# Altium schematic symbol library Interface_Ethernet.SchLib: 28 symbols
Pins are listed as number, name and electrical type; pins without a type are passive.

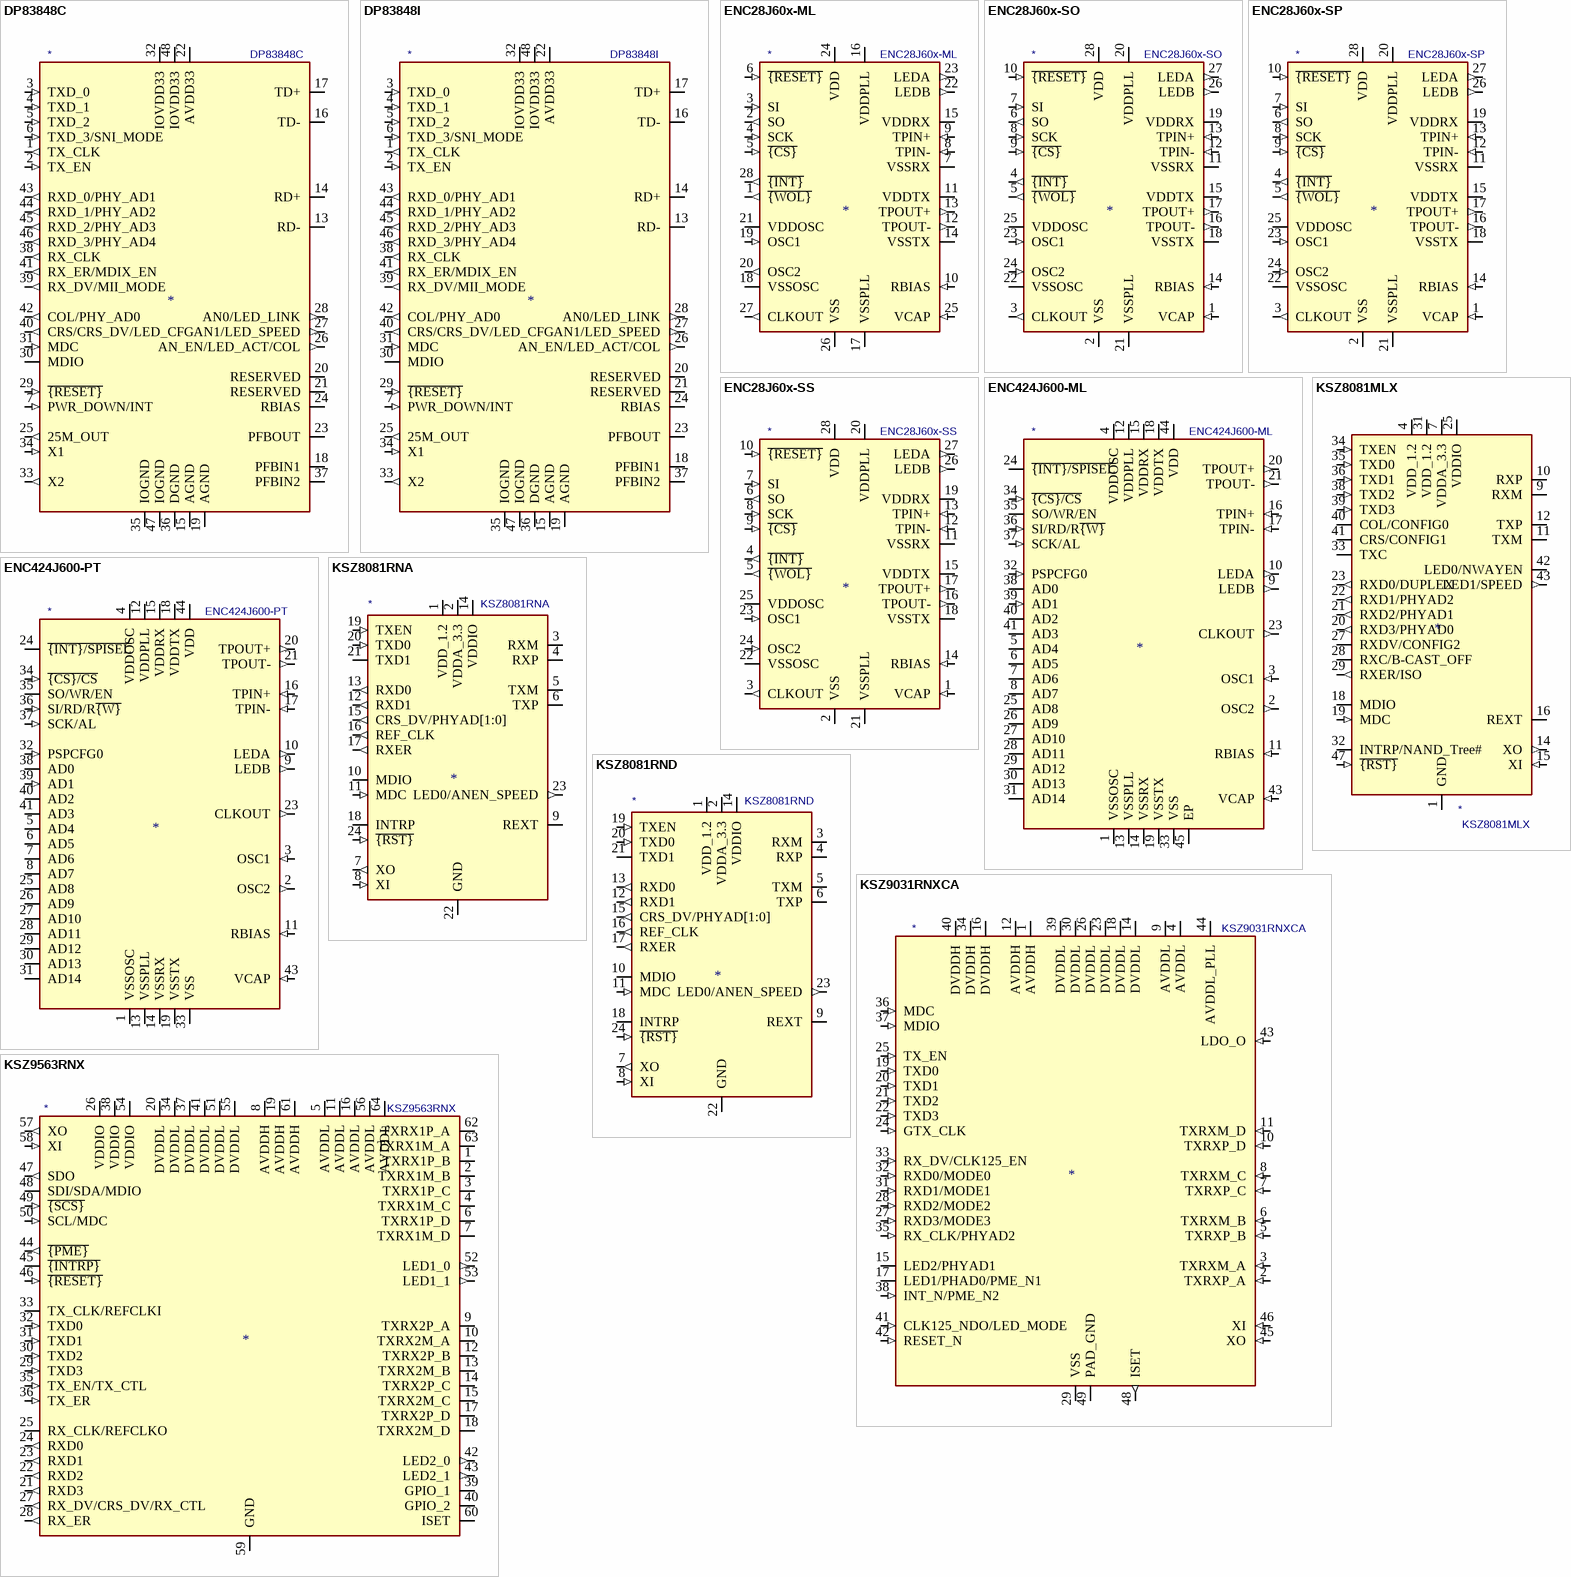
[diagram p0: symbols DP83848C to KSZ9563RNX]

## DP83848C
designator *  value DP83848C
ki_keywords: Ethernet PHY MII RMII 10/100Mpbs; ki_description: MII/RMII Single 10/100Mbps Ethernet Physical Layer Transceiver, LQFP-48; ki_fp_filters: LQFP*7x7mm*P0.5mm*; Footprint: Package_QFP:LQFP-48_7x7mm_P0.5mm; Supplier: http://www.ti.com/lit/ds/symlink/dp83848c.pdf
footprint LQFP-48_7x7mm_P0.5mm
pins: 1 TX_CLK (out), 2 TX_EN (in), 3 TXD_0 (in), 4 TXD_1 (in), 5 TXD_2 (in), 6 TXD_3/SNI_MODE (in), 7 PWR_DOWN/INT (in), 13 RD-, 14 RD+, 15 AGND (power), 16 TD-, 17 TD+, 18 PFBIN1, 19 AGND (power), 20 RESERVED, 21 RESERVED, 22 AVDD33 (power), 23 PFBOUT, 24 RBIAS, 25 25M_OUT (out), 26 AN_EN/LED_ACT/COL (out), 27 AN1/LED_SPEED (out), 28 AN0/LED_LINK (out), 29 ~{{RESET}} (in), 30 MDIO (io), 31 MDC (in), 32 IOVDD33 (power), 33 X2 (out), 34 X1 (in), 35 IOGND (power), 36 DGND (power), 37 PFBIN2, 38 RX_CLK (out), 39 RX_DV/MII_MODE (out), 40 CRS/CRS_DV/LED_CFG (out), 41 RX_ER/MDIX_EN (out), 42 COL/PHY_AD0 (out), 43 RXD_0/PHY_AD1 (out), 44 RXD_1/PHY_AD2 (out), 45 RXD_2/PHY_AD3 (out), 46 RXD_3/PHY_AD4 (out), 47 IOGND (power), 48 IOVDD33 (power)

## DP83848I
designator *  value DP83848I
ki_keywords: Ethernet PHY MII RMII 10/100Mpbs; ki_description: MII/RMII Single 10/100Mbps Ethernet Physical Layer Transceiver, LQFP-48; ki_fp_filters: LQFP*7x7mm*P0.5mm*; Footprint: Package_QFP:LQFP-48_7x7mm_P0.5mm; Supplier: http://www.ti.com/lit/ds/symlink/dp83848c.pdf
footprint LQFP-48_7x7mm_P0.5mm
pins: 1 TX_CLK (out), 2 TX_EN (in), 3 TXD_0 (in), 4 TXD_1 (in), 5 TXD_2 (in), 6 TXD_3/SNI_MODE (in), 7 PWR_DOWN/INT (in), 13 RD-, 14 RD+, 15 AGND (power), 16 TD-, 17 TD+, 18 PFBIN1, 19 AGND (power), 20 RESERVED, 21 RESERVED, 22 AVDD33 (power), 23 PFBOUT, 24 RBIAS, 25 25M_OUT (out), 26 AN_EN/LED_ACT/COL (out), 27 AN1/LED_SPEED (out), 28 AN0/LED_LINK (out), 29 ~{{RESET}} (in), 30 MDIO (io), 31 MDC (in), 32 IOVDD33 (power), 33 X2 (out), 34 X1 (in), 35 IOGND (power), 36 DGND (power), 37 PFBIN2, 38 RX_CLK (out), 39 RX_DV/MII_MODE (out), 40 CRS/CRS_DV/LED_CFG (out), 41 RX_ER/MDIX_EN (out), 42 COL/PHY_AD0 (out), 43 RXD_0/PHY_AD1 (out), 44 RXD_1/PHY_AD2 (out), 45 RXD_2/PHY_AD3 (out), 46 RXD_3/PHY_AD4 (out), 47 IOGND (power), 48 IOVDD33 (power)

## ENC28J60x-ML
designator *  value ENC28J60x-ML
ki_keywords: ENC Ethernet; ki_description: ENC28J60 Single Chip Ethernet Interface,QFN-28; ki_fp_filters: QFN*28*1EP*6x6mm*P0.65mm*; Footprint: Package_DFN_QFN:QFN-28-1EP_6x6mm_P0.65mm_EP4.25x4.25mm; Supplier: http://ww1.microchip.com/downloads/en/devicedoc/39662e.pdf
footprint QFN-28-1EP_6x6mm_P0.65mm_EP4.25x4.25mm
pins: 1 ~{{WOL}} (out), 2 SO (out), 3 SI (in), 4 SCK (in), 5 ~{{CS}} (in), 6 ~{{RESET}} (in), 7 VSSRX (power), 8 TPIN- (in), 9 TPIN+ (in), 10 RBIAS (in), 11 VDDTX (power), 12 TPOUT- (out), 13 TPOUT+ (out), 14 VSSTX (power), 15 VDDRX (power), 16 VDDPLL (power), 17 VSSPLL (power), 18 VSSOSC (power), 19 OSC1 (in), 20 OSC2 (out), 21 VDDOSC (power), 22 LEDB (out), 23 LEDA (out), 24 VDD (power), 25 VCAP (in), 26 VSS (power), 27 CLKOUT (out), 28 ~{{INT}} (out)

## ENC28J60x-SO
designator *  value ENC28J60x-SO
ki_keywords: ENC Ethernet; ki_description: ENC28J60 Single Chip Ethernet Interface, SOIC-28; ki_fp_filters: SOIC*28*7.5x17.9mm*P1.27mm*; Footprint: Package_SO:SOIC-28W_7.5x17.9mm_P1.27mm; Supplier: http://ww1.microchip.com/downloads/en/devicedoc/39662e.pdf
footprint SOIC-28W_7.5x17.9mm_P1.27mm
pins: 1 VCAP (in), 2 VSS (power), 3 CLKOUT (out), 4 ~{{INT}} (out), 5 ~{{WOL}} (out), 6 SO (out), 7 SI (in), 8 SCK (in), 9 ~{{CS}} (in), 10 ~{{RESET}} (in), 11 VSSRX (power), 12 TPIN- (in), 13 TPIN+ (in), 14 RBIAS (in), 15 VDDTX (power), 16 TPOUT- (out), 17 TPOUT+ (out), 18 VSSTX (power), 19 VDDRX (power), 20 VDDPLL (power), 21 VSSPLL (power), 22 VSSOSC (power), 23 OSC1 (in), 24 OSC2 (in), 25 VDDOSC (power), 26 LEDB (out), 27 LEDA (out), 28 VDD (power)

## ENC28J60x-SP
designator *  value ENC28J60x-SP
ki_keywords: ENC Ethernet; ki_description: ENC28J60 Single Chip Ethernet Interface, DIP-28; ki_fp_filters: DIP*28*W7.62mm*; Footprint: Package_DIP:DIP-28_W7.62mm; Supplier: http://ww1.microchip.com/downloads/en/devicedoc/39662e.pdf
footprint DIP-28_W7.62mm
pins: 1 VCAP (in), 2 VSS (power), 3 CLKOUT (out), 4 ~{{INT}} (out), 5 ~{{WOL}} (out), 6 SO (out), 7 SI (in), 8 SCK (in), 9 ~{{CS}} (in), 10 ~{{RESET}} (in), 11 VSSRX (power), 12 TPIN- (in), 13 TPIN+ (in), 14 RBIAS (in), 15 VDDTX (power), 16 TPOUT- (out), 17 TPOUT+ (out), 18 VSSTX (power), 19 VDDRX (power), 20 VDDPLL (power), 21 VSSPLL (power), 22 VSSOSC (power), 23 OSC1 (in), 24 OSC2 (in), 25 VDDOSC (power), 26 LEDB (out), 27 LEDA (out), 28 VDD (power)

## ENC28J60x-SS
designator *  value ENC28J60x-SS
ki_keywords: ENC Ethernet; ki_description: ENC28J60 Single Chip Ethernet Interface, SSOP-28; ki_fp_filters: SSOP*28*5.3x10.2mm*P0.65mm*; Footprint: Package_SO:SSOP-28_5.3x10.2mm_P0.65mm; Supplier: http://ww1.microchip.com/downloads/en/devicedoc/39662e.pdf
footprint SSOP-28_5.3x10.2mm_P0.65mm
pins: 1 VCAP (in), 2 VSS (power), 3 CLKOUT (out), 4 ~{{INT}} (out), 5 ~{{WOL}} (out), 6 SO (out), 7 SI (in), 8 SCK (in), 9 ~{{CS}} (in), 10 ~{{RESET}} (in), 11 VSSRX (power), 12 TPIN- (in), 13 TPIN+ (in), 14 RBIAS (in), 15 VDDTX (power), 16 TPOUT- (out), 17 TPOUT+ (out), 18 VSSTX (power), 19 VDDRX (power), 20 VDDPLL (power), 21 VSSPLL (power), 22 VSSOSC (power), 23 OSC1 (in), 24 OSC2 (in), 25 VDDOSC (power), 26 LEDB (out), 27 LEDA (out), 28 VDD (power)

## ENC424J600-ML
designator *  value ENC424J600-ML
ki_keywords: ENC Ethernet; ki_description: Stand-Alone 10/100 Ethernet Controller with SPI or Parallel Interface, QFN-44; ki_fp_filters: QFN*44*8x8mm*P0.65mm*; Footprint: Package_DFN_QFN:QFN-44-1EP_8x8mm_P0.65mm_EP6.45x6.45mm; Supplier: http://ww1.microchip.com/downloads/en/DeviceDoc/39935c.pdf
footprint QFN-44-1EP_8x8mm_P0.65mm_EP6.45x6.45mm
pins: 1 VSSOSC (power), 2 OSC2 (out), 3 OSC1 (in), 4 VDDOSC (power), 5 AD4 (io), 6 AD5 (io), 7 AD6 (io), 8 AD7 (io), 9 LEDB (out), 10 LEDA (out), 11 RBIAS (in), 12 VDDPLL (power), 13 VSSPLL (power), 14 VSSRX (power), 15 VDDRX (power), 16 TPIN+ (in), 17 TPIN- (in), 18 VDDTX (power), 19 VSSTX (power), 20 TPOUT+ (out), 21 TPOUT- (out), 22 VSSTX hidden, 23 CLKOUT (out), 24 ~{{INT}/SPISEL} (io), 25 AD8 (io), 26 AD9 (io), 27 AD10 (io), 28 AD11 (io), 29 AD12 (io), 30 AD13 (io), 31 AD14 (io), 32 PSPCFG0 (in), 33 VSS (power), 34 ~{{CS}/CS} (in), 35 SO/WR/EN (io), 36 SI/RD/R~{{W}} (in), 37 SCK/AL (in), 38 AD0 (io), 39 AD1 (in), 40 AD2 (io), 41 AD3 (io), 42 VSS hidden, 43 VCAP (in), 44 VDD (power), 45 EP (power)

## ENC424J600-PT
designator *  value ENC424J600-PT
ki_keywords: ENC Ethernet; ki_description: Stand-Alone 10/100 Ethernet Controller with SPI or Parallel Interface, TQFP-44; ki_fp_filters: TQFP*44*10x10mm*P0.8mm*; Footprint: Package_QFP:TQFP-44_10x10mm_P0.8mm; Supplier: http://ww1.microchip.com/downloads/en/DeviceDoc/39935c.pdf
footprint TQFP-44_10x10mm_P0.8mm
pins: 1 VSSOSC (power), 2 OSC2 (out), 3 OSC1 (in), 4 VDDOSC (power), 5 AD4 (io), 6 AD5 (io), 7 AD6 (io), 8 AD7 (io), 9 LEDB (out), 10 LEDA (out), 11 RBIAS (in), 12 VDDPLL (power), 13 VSSPLL (power), 14 VSSRX (power), 15 VDDRX (power), 16 TPIN+ (in), 17 TPIN- (in), 18 VDDTX (power), 19 VSSTX (power), 20 TPOUT+ (out), 21 TPOUT- (out), 22 VSSTX hidden, 23 CLKOUT (out), 24 ~{{INT}/SPISEL} (io), 25 AD8 (io), 26 AD9 (io), 27 AD10 (io), 28 AD11 (io), 29 AD12 (io), 30 AD13 (io), 31 AD14 (io), 32 PSPCFG0 (in), 33 VSS (power), 34 ~{{CS}/CS} (in), 35 SO/WR/EN (io), 36 SI/RD/R~{{W}} (in), 37 SCK/AL (in), 38 AD0 (io), 39 AD1 (in), 40 AD2 (io), 41 AD3 (io), 42 VSS hidden, 43 VCAP (in), 44 VDD (power)

## KSZ8081MLX
designator *  value KSZ8081MLX
ki_keywords: ETH PHY RMII MII; ki_description: 10BASE-T/100BASE-TX PHY with RMII Support, 25 MHz input clock, LQFP-48; ki_fp_filters: LQFP?48*7x7mm*P0.5mm*; Footprint: Package_QFP:LQFP-48_7x7mm_P0.5mm; Supplier: http://ww1.microchip.com/downloads/en/DeviceDoc/KSZ8081MLX.pdf
footprint LQFP-48_7x7mm_P0.5mm
pins: 1 GND (power), 2 GND hidden, 3 GND hidden, 4 VDD_1.2 (power), 5 NC (in) hidden, 6 NC (in) hidden, 7 VDDA_3.3 (power), 8 NC (in) hidden, 9 RXM, 10 RXP, 11 TXM, 12 TXP, 13 GND hidden, 14 XO (out), 15 XI (in), 16 REXT, 17 GND hidden, 18 MDIO (io), 19 MDC (in), 20 RXD3/PHYAD0 (out), 21 RXD2/PHYAD1 (out), 22 RXD1/PHYAD2 (out), 23 RXD0/DUPLEX (out), 24 GND hidden, 25 VDDIO (power), 26 NC (in) hidden, 27 RXDV/CONFIG2 (io), 28 RXC/B-CAST_OFF (io), 29 RXER/ISO (out), 30 GND hidden, 31 VDD_1.2 (power), 32 INTRP/NAND_Tree# (io), 33 TXC (io), 34 TXEN (in), 35 TXD0 (in), 36 TXD1 (in), 37 GND hidden, 38 TXD2 (in), 39 TXD3 (in), 40 COL/CONFIG0 (io), 41 CRS/CONFIG1 (io), 42 LED0/NWAYEN (io), 43 LED1/SPEED (out), 44 TEST/NC (in) hidden, 45 NC (in) hidden, 46 NC (in) hidden, 47 ~{{RST}} (in)

## KSZ8081RNA
designator *  value KSZ8081RNA
ki_keywords: ETH PHY RMII; ki_description: 10BASE-T/100BASE-TX PHY with RMII Support, 25 MHz input clock/50 MHz output, QFN-24; ki_fp_filters: QFN*1EP*4x4mm*P0.5mm*; Footprint: Package_DFN_QFN:QFN-24-1EP_4x4mm_P0.5mm_EP2.6x2.6mm; Supplier: http://ww1.microchip.com/downloads/en/DeviceDoc/00002199A.pdf
footprint QFN-24-1EP_4x4mm_P0.5mm_EP2.6x2.6mm
pins: 1 VDD_1.2 (power), 2 VDDA_3.3 (power), 3 RXM (io), 4 RXP (io), 5 TXM (io), 6 TXP (io), 7 XO (out), 8 XI (in), 9 REXT, 10 MDIO (io), 11 MDC (in), 12 RXD1 (out), 13 RXD0 (out), 14 VDDIO (power), 15 CRS_DV/PHYAD[1:0] (out), 16 REF_CLK (out), 17 RXER (out), 18 INTRP (io), 19 TXEN (in), 20 TXD0 (in), 21 TXD1 (io), 22 GND (power), 23 LED0/ANEN_SPEED (out), 24 ~{{RST}} (in), 25 GND hidden

## KSZ8081RND
designator *  value KSZ8081RND
ki_keywords: ETH PHY RMII; ki_description: 10BASE-T/100BASE-TX PHY with RMII Support, 50 MHz input clock, QFN-24; ki_fp_filters: QFN*1EP*4x4mm*P0.5mm*; Footprint: Package_DFN_QFN:QFN-24-1EP_4x4mm_P0.5mm_EP2.6x2.6mm; Supplier: http://ww1.microchip.com/downloads/en/DeviceDoc/00002199A.pdf
footprint QFN-24-1EP_4x4mm_P0.5mm_EP2.6x2.6mm
pins: 1 VDD_1.2 (power), 2 VDDA_3.3 (power), 3 RXM (io), 4 RXP (io), 5 TXM (io), 6 TXP (io), 7 XO (out), 8 XI (in), 9 REXT, 10 MDIO (io), 11 MDC (in), 12 RXD1 (out), 13 RXD0 (out), 14 VDDIO (power), 15 CRS_DV/PHYAD[1:0] (out), 16 REF_CLK (out), 17 RXER (out), 18 INTRP (io), 19 TXEN (in), 20 TXD0 (in), 21 TXD1 (io), 22 GND (power), 23 LED0/ANEN_SPEED (out), 24 ~{{RST}} (in), 25 GND hidden

## KSZ9031RNXCA
designator *  value KSZ9031RNXCA
ki_keywords: ETHERNET PHY RGMII WOL IEEE 802.3 MICROCHIP; ki_description: 10/100/1000Mbps Ethernet Transceiver with RGMII Interface, QFN-48; ki_fp_filters: QFN*1EP*7x7mm*P0.5mm*; Footprint: Package_DFN_QFN:QFN-48-1EP_7x7mm_P0.5mm_EP5.15x5.15mm; Supplier: http://ww1.microchip.com/downloads/en/DeviceDoc/00002117C.pdf
footprint QFN-48-1EP_7x7mm_P0.5mm_EP5.15x5.15mm
pins: 1 AVDDH (power), 2 TXRXP_A (in), 3 TXRXM_A (in), 4 AVDDL (power), 5 TXRXP_B (in), 6 TXRXM_B (in), 7 TXRXP_C (in), 8 TXRXM_C (in), 9 AVDDL (power), 10 TXRXP_D (in), 11 TXRXM_D (in), 12 AVDDH (power), 13 NC (in) hidden, 14 DVDDL (power), 15 LED2/PHYAD1 (io), 16 DVDDH (power), 17 LED1/PHAD0/PME_N1 (io), 18 DVDDL (power), 19 TXD0 (in), 20 TXD1 (in), 21 TXD2 (in), 22 TXD3 (in), 23 DVDDL (power), 24 GTX_CLK (in), 25 TX_EN (in), 26 DVDDL (power), 27 RXD3/MODE3 (in), 28 RXD2/MODE2 (in), 29 VSS (power), 30 DVDDL (power), 31 RXD1/MODE1 (in), 32 RXD0/MODE0 (in), 33 RX_DV/CLK125_EN (in), 34 DVDDH (power), 35 RX_CLK/PHYAD2 (in), 36 MDC (in), 37 MDIO (in), 38 INT_N/PME_N2 (in), 39 DVDDL (power), 40 DVDDH (power), 41 CLK125_NDO/LED_MODE (in), 42 RESET_N (in), 43 LDO_O (in), 44 AVDDL_PLL (power), 45 XO (in), 46 XI (in), 47 NC (in) hidden, 48 ISET (out), 49 PAD_GND (power)

## KSZ9563RNX
designator *  value KSZ9563RNX
ki_keywords: Gigabit Ethernet Switch RGMII MII RMII ieee1588v2; ki_description: 3-Port Gigabit Ethernet Switch with RGMII/MII/RMII Interface and IEEE 1588v2, QFN-64; ki_fp_filters: QFN*1EP*8x8mm*P0.4mm*; Footprint: Package_DFN_QFN:QFN-64-1EP_8x8mm_P0.4mm_EP6.5x6.5mm; Supplier: http://ww1.microchip.com/downloads/en/DeviceDoc/KSZ9563R-Data-Sheet-DS00002419C.pdf
footprint QFN-64-1EP_8x8mm_P0.4mm_EP6.5x6.5mm
pins: 1 TXRX1P_B, 2 TXRX1M_B, 3 TXRX1P_C, 4 TXRX1M_C, 5 AVDDL (power), 6 TXRX1P_D, 7 TXRX1M_D, 8 AVDDH (power), 9 TXRX2P_A, 10 TXRX2M_A, 11 AVDDL (power), 12 TXRX2P_B, 13 TXRX2M_B, 14 TXRX2P_C, 15 TXRX2M_C, 16 AVDDL (power), 17 TXRX2P_D, 18 TXRX2M_D, 19 AVDDH (power), 20 DVDDL (power), 21 RXD3 (out), 22 RXD2 (out), 23 RXD1 (out), 24 RXD0 (out), 25 RX_CLK/REFCLKO (io), 26 VDDIO (power), 27 RX_DV/CRS_DV/RX_CTL (out), 28 RX_ER (out), 29 TXD3 (in), 30 TXD2 (in), 31 TXD1 (in), 32 TXD0 (in), 33 TX_CLK/REFCLKI (io), 34 DVDDL (power), 35 TX_EN/TX_CTL (in), 36 TX_ER (in), 37 DVDDL (power), 38 VDDIO (power), 39 GPIO_1 (io), 40 GPIO_2 (io), 41 DVDDL (power), 42 LED2_0 (out), 43 LED2_1 (out), 44 ~{{PME}} (out), 45 ~{{INTRP}} (oc), 46 ~{{RESET}} (in), 47 SDO (out), 48 SDI/SDA/MDIO (io), 49 ~{{SCS}} (in), 50 SCL/MDC (in), 51 DVDDL (power), 52 LED1_0 (out), 53 LED1_1 (out), 54 VDDIO (power), 55 DVDDL (power), 56 AVDDL (power), 57 XO (out), 58 XI (in), 59 GND (power), 60 ISET, 61 AVDDH (power), 62 TXRX1P_A, 63 TXRX1M_A, 64 AVDDL (power), 65 GND hidden

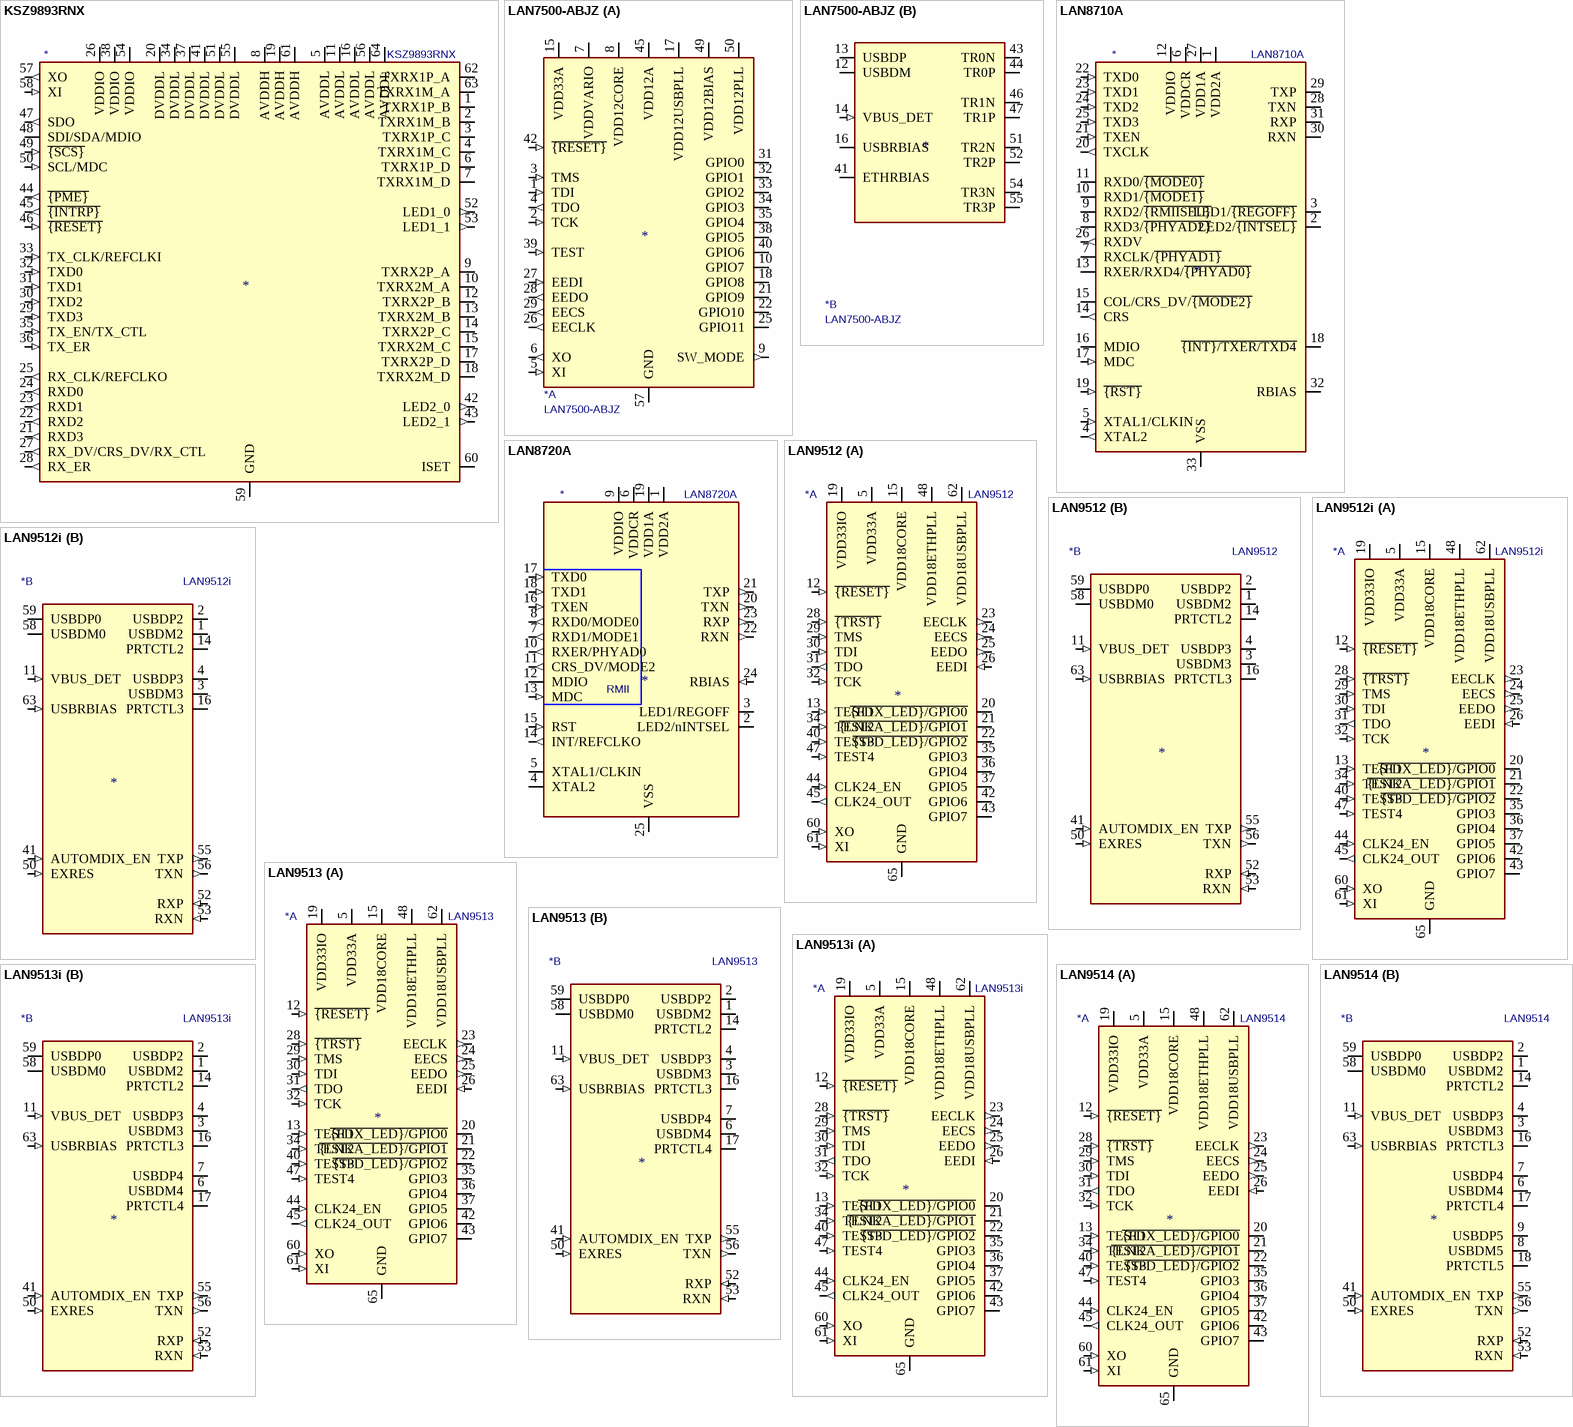
[diagram p1: symbols KSZ9893RNX to LAN9514]

## KSZ9893RNX
designator *  value KSZ9893RNX
ki_keywords: Gigabit Ethernet Switch RGMII MII RMII; ki_description: 3-Port Gigabit Ethernet Switch with RGMII/MII/RMII Interface, QFN-64; ki_fp_filters: QFN*1EP*8x8mm*P0.4mm*; Footprint: Package_DFN_QFN:QFN-64-1EP_8x8mm_P0.4mm_EP6.5x6.5mm; Supplier: http://ww1.microchip.com/downloads/en/DeviceDoc/KSZ9893R-Data-Sheet-DS00002420C.pdf
footprint QFN-64-1EP_8x8mm_P0.4mm_EP6.5x6.5mm
pins: 1 TXRX1P_B, 2 TXRX1M_B, 3 TXRX1P_C, 4 TXRX1M_C, 5 AVDDL (power), 6 TXRX1P_D, 7 TXRX1M_D, 8 AVDDH (power), 9 TXRX2P_A, 10 TXRX2M_A, 11 AVDDL (power), 12 TXRX2P_B, 13 TXRX2M_B, 14 TXRX2P_C, 15 TXRX2M_C, 16 AVDDL (power), 17 TXRX2P_D, 18 TXRX2M_D, 19 AVDDH (power), 20 DVDDL (power), 21 RXD3 (out), 22 RXD2 (out), 23 RXD1 (out), 24 RXD0 (out), 25 RX_CLK/REFCLKO (out), 26 VDDIO (power), 27 RX_DV/CRS_DV/RX_CTL (out), 28 RX_ER (out), 29 TXD3 (in), 30 TXD2 (in), 31 TXD1 (in), 32 TXD0 (in), 33 TX_CLK/REFCLKI (in), 34 DVDDL (power), 35 TX_EN/TX_CTL (in), 36 TX_ER (in), 37 DVDDL (power), 38 VDDIO (power), 39 NC (in) hidden, 40 NC (in) hidden, 41 DVDDL (power), 42 LED2_0 (out), 43 LED2_1 (out), 44 ~{{PME}} (out), 45 ~{{INTRP}} (out), 46 ~{{RESET}} (in), 47 SDO (out), 48 SDI/SDA/MDIO (io), 49 ~{{SCS}} (in), 50 SCL/MDC (in), 51 DVDDL (power), 52 LED1_0 (out), 53 LED1_1 (out), 54 VDDIO (power), 55 DVDDL (power), 56 AVDDL (power), 57 XO (out), 58 XI (in), 59 GND (power), 60 ISET, 61 AVDDH (power), 62 TXRX1P_A, 63 TXRX1M_A, 64 AVDDL (power), 65 GND hidden

## LAN7500-ABJZ
designator *  value LAN7500-ABJZ
ki_keywords: USB Ethernet 10/100/1000; ki_description: Hi-Speed USB 2.0 to 10/100/1000 Ethernet Controller, QFN-56; ki_fp_filters: QFN*1EP*8x8mm*P0.5mm*; Footprint: Package_DFN_QFN:QFN-56-1EP_8x8mm_P0.5mm_EP5.9x5.9mm; Supplier: http://ww1.microchip.com/downloads/en/DeviceDoc/00001734B.pdf
footprint QFN-56-1EP_8x8mm_P0.5mm_EP5.9x5.9mm
part A pins: 1 TDI (in), 2 TCK (in), 3 TMS (in), 4 TDO (out), 5 XI (in), 6 XO (out), 7 VDDVARIO (power), 8 VDD12CORE (power), 9 SW_MODE (out), 10 GPIO7 (io), 11 VDD12CORE hidden, 15 VDD33A (power), 17 VDD12USBPLL (power), 18 GPIO8 (io), 19 VDDVARIO hidden, 20 VDD12CORE hidden, 21 GPIO9 (io), 22 GPIO10 (io), 23 VDD12CORE hidden, 24 VDDVARIO hidden, 25 GPIO11 (io), 26 EECLK (out), 27 EEDI (in), 28 EEDO (out), 29 EECS (out), 30 VDD12CORE hidden, 31 GPIO0 (io), 32 GPIO1 (io), 33 GPIO2 (io), 34 GPIO3 (io), 35 GPIO4 (io), 36 VDD12CORE hidden, 37 VDDVARIO hidden, 38 GPIO5 (io), 39 TEST (in), 40 GPIO6 (io), 42 ~{{RESET}} (in), 45 VDD12A (power), 48 VDD12A hidden, 49 VDD12BIAS (power), 50 VDD12PLL (power), 53 VDD12A hidden, 56 VDD12A hidden, 57 GND (power)
part B pins: 12 USBDM (io), 13 USBDP (io), 14 VBUS_DET (in), 16 USBRBIAS, 41 ETHRBIAS, 43 TR0N (io), 44 TR0P (io), 46 TR1N (io), 47 TR1P (io), 51 TR2N (io), 52 TR2P (io), 54 TR3N (io), 55 TR3P (io)

## LAN8710A
designator *  value LAN8710A
ki_keywords: ETH PHY MII RMII; ki_description: LAN8710 Ethernet PHY with MII/RMII interface, QFN-32; ki_fp_filters: QFN*1EP*5x5mm*P0.5mm*; Footprint: Package_DFN_QFN:QFN-32-1EP_5x5mm_P0.5mm_EP3.3x3.3mm_ThermalVias; Supplier: http://ww1.microchip.com/downloads/en/DeviceDoc/8710a.pdf
footprint QFN-32-1EP_5x5mm_P0.5mm_EP3.3x3.3mm_ThermalVias
pins: 1 VDD2A (power), 2 LED2/~{{INTSEL}} (io), 3 LED1/~{{REGOFF}} (io), 4 XTAL2 (out), 5 XTAL1/CLKIN (in), 6 VDDCR (power), 7 RXCLK/~{{PHYAD1}} (io), 8 RXD3/~{{PHYAD2}} (io), 9 RXD2/~{{RMIISEL}} (io), 10 RXD1/~{{MODE1}} (io), 11 RXD0/~{{MODE0}} (io), 12 VDDIO (power), 13 RXER/RXD4/~{{PHYAD0}} (io), 14 CRS (out), 15 COL/CRS_DV/~{{MODE2}} (io), 16 MDIO (io), 17 MDC (in), 18 ~{{INT}/TXER/TXD4} (io), 19 ~{{RST}} (in), 20 TXCLK (out), 21 TXEN (in), 22 TXD0 (in), 23 TXD1 (in), 24 TXD2 (in), 25 TXD3 (in), 26 RXDV (out), 27 VDD1A (power), 28 TXN (io), 29 TXP (io), 30 RXN (io), 31 RXP (io), 32 RBIAS, 33 VSS (power)

## LAN8720A
designator *  value LAN8720A
ki_keywords: ETH PHY RMII; ki_description: LAN8720 Ethernet PHY with RMII interface, QFN-24; ki_fp_filters: QFN*1EP*4x4mm*P0.5mm*; Footprint: Package_DFN_QFN:QFN-24-1EP_4x4mm_P0.5mm_EP2.6x2.6mm; Supplier: http://ww1.microchip.com/downloads/en/DeviceDoc/8720a.pdf
footprint QFN-24-1EP_4x4mm_P0.5mm_EP2.6x2.6mm
pins: 1 VDD2A (power), 2 LED2/nINTSEL (io), 3 LED1/REGOFF (io), 4 XTAL2, 5 XTAL1/CLKIN, 6 VDDCR (power), 7 RXD1/MODE1 (out), 8 RXD0/MODE0 (out), 9 VDDIO (power), 10 RXER/PHYAD0 (out), 11 CRS_DV/MODE2 (out), 12 MDIO (io), 13 MDC (in), 14 INT/REFCLKO (out), 15 RST (in), 16 TXEN (in), 17 TXD0 (in), 18 TXD1 (in), 19 VDD1A (power), 20 TXN (out), 21 TXP (out), 22 RXN (out), 23 RXP (out), 24 RBIAS (in), 25 VSS (power)
text: RMII

## LAN9512
designator *  value LAN9512
ki_keywords: USB HUB Ethernet 10/100; ki_description: Two USB 2.0 hub with an integrated 10/100 Ethernet controller (0°C to +70°C), QFN-48; ki_fp_filters: QFN*1EP?9x9mm?P0.5mm?EP7.3x7.3mm*; Footprint: Package_DFN_QFN:QFN-64-1EP_9x9mm_P0.5mm_EP7.3x7.3mm; Supplier: http://ww1.microchip.com/downloads/en/DeviceDoc/00002304A.pdf
footprint QFN-64-1EP_9x9mm_P0.5mm_EP7.3x7.3mm
part A pins: 5 VDD33A (power), 10 VDD33A hidden, 12 ~{{RESET}} (in), 13 TEST1 (in), 15 VDD18CORE (power), 19 VDD33IO (power), 20 ~{{FDX_LED}/GPIO0} (io), 21 ~{{LNKA_LED}/GPIO1} (io), 22 ~{{SPD_LED}/GPIO2} (io), 23 EECLK (out), 24 EECS (out), 25 EEDO (out), 26 EEDI (in), 27 VDD33IO hidden, 28 ~{{TRST}} (in), 29 TMS (in), 30 TDI (in), 31 TDO (out), 32 TCK (in), 33 VDD33IO hidden, 34 TEST2 (in), 35 GPIO3 (io), 36 GPIO4 (io), 37 GPIO5 (io), 38 VDD18CORE hidden, 39 VDD33IO hidden, 40 TEST3 (in), 42 GPIO6 (io), 43 GPIO7 (io), 44 CLK24_EN (in), 45 CLK24_OUT (out), 46 VDD33IO hidden, 47 TEST4 (in), 48 VDD18ETHPLL (power), 49 VDD33A hidden, 51 VDD33A hidden, 54 VDD33A hidden, 57 VDD33A hidden, 60 XO (in), 61 XI (in), 62 VDD18USBPLL (power), 64 VDD33A hidden, 65 GND (power)
part B pins: 1 USBDM2 (io), 2 USBDP2 (io), 3 USBDM3 (io), 4 USBDP3 (io), 6 NC (in) hidden, 7 NC (in) hidden, 8 NC (in) hidden, 9 NC (in) hidden, 11 VBUS_DET (in), 14 PRTCTL2 (io), 16 PRTCTL3 (io), 17 NC (in) hidden, 18 NC (in) hidden, 41 AUTOMDIX_EN (in), 50 EXRES (in), 52 RXP (in), 53 RXN (in), 55 TXP (out), 56 TXN (out), 58 USBDM0 (io), 59 USBDP0 (io), 63 USBRBIAS (in)

## LAN9512i
designator *  value LAN9512i
ki_keywords: USB HUB Ethernet 10/100; ki_description: Two USB 2.0 hub with an integrated 10/100 Ethernet controller (-40° to 85°C), QFN-48; ki_fp_filters: QFN*1EP?9x9mm?P0.5mm?EP7.3x7.3mm*; Footprint: Package_DFN_QFN:QFN-64-1EP_9x9mm_P0.5mm_EP7.3x7.3mm; Supplier: http://ww1.microchip.com/downloads/en/DeviceDoc/00002304A.pdf
footprint QFN-64-1EP_9x9mm_P0.5mm_EP7.3x7.3mm
part A pins: 5 VDD33A (power), 10 VDD33A hidden, 12 ~{{RESET}} (in), 13 TEST1 (in), 15 VDD18CORE (power), 19 VDD33IO (power), 20 ~{{FDX_LED}/GPIO0} (io), 21 ~{{LNKA_LED}/GPIO1} (io), 22 ~{{SPD_LED}/GPIO2} (io), 23 EECLK (out), 24 EECS (out), 25 EEDO (out), 26 EEDI (in), 27 VDD33IO hidden, 28 ~{{TRST}} (in), 29 TMS (in), 30 TDI (in), 31 TDO (out), 32 TCK (in), 33 VDD33IO hidden, 34 TEST2 (in), 35 GPIO3 (io), 36 GPIO4 (io), 37 GPIO5 (io), 38 VDD18CORE hidden, 39 VDD33IO hidden, 40 TEST3 (in), 42 GPIO6 (io), 43 GPIO7 (io), 44 CLK24_EN (in), 45 CLK24_OUT (out), 46 VDD33IO hidden, 47 TEST4 (in), 48 VDD18ETHPLL (power), 49 VDD33A hidden, 51 VDD33A hidden, 54 VDD33A hidden, 57 VDD33A hidden, 60 XO (in), 61 XI (in), 62 VDD18USBPLL (power), 64 VDD33A hidden, 65 GND (power)
part B pins: 1 USBDM2 (io), 2 USBDP2 (io), 3 USBDM3 (io), 4 USBDP3 (io), 6 NC (in) hidden, 7 NC (in) hidden, 8 NC (in) hidden, 9 NC (in) hidden, 11 VBUS_DET (in), 14 PRTCTL2 (io), 16 PRTCTL3 (io), 17 NC (in) hidden, 18 NC (in) hidden, 41 AUTOMDIX_EN (in), 50 EXRES (in), 52 RXP (in), 53 RXN (in), 55 TXP (out), 56 TXN (out), 58 USBDM0 (io), 59 USBDP0 (io), 63 USBRBIAS (in)

## LAN9513
designator *  value LAN9513
ki_keywords: USB HUB Ethernet 10/100; ki_description: Three USB 2.0 hub with an integrated 10/100 Ethernet controller (0°C to +70°C), QFN-48; ki_fp_filters: QFN*1EP?9x9mm?P0.5mm?EP7.3x7.3mm*; Footprint: Package_DFN_QFN:QFN-64-1EP_9x9mm_P0.5mm_EP7.3x7.3mm; Supplier: http://ww1.microchip.com/downloads/en/DeviceDoc/00002305A.pdf
footprint QFN-64-1EP_9x9mm_P0.5mm_EP7.3x7.3mm
part A pins: 5 VDD33A (power), 10 VDD33A hidden, 12 ~{{RESET}} (in), 13 TEST1 (in), 15 VDD18CORE (power), 19 VDD33IO (power), 20 ~{{FDX_LED}/GPIO0} (io), 21 ~{{LNKA_LED}/GPIO1} (io), 22 ~{{SPD_LED}/GPIO2} (io), 23 EECLK (out), 24 EECS (out), 25 EEDO (out), 26 EEDI (in), 27 VDD33IO hidden, 28 ~{{TRST}} (in), 29 TMS (in), 30 TDI (in), 31 TDO (out), 32 TCK (in), 33 VDD33IO hidden, 34 TEST2 (in), 35 GPIO3 (io), 36 GPIO4 (io), 37 GPIO5 (io), 38 VDD18CORE hidden, 39 VDD33IO hidden, 40 TEST3 (in), 42 GPIO6 (io), 43 GPIO7 (io), 44 CLK24_EN (in), 45 CLK24_OUT (out), 46 VDD33IO hidden, 47 TEST4 (in), 48 VDD18ETHPLL (power), 49 VDD33A hidden, 51 VDD33A hidden, 54 VDD33A hidden, 57 VDD33A hidden, 60 XO (in), 61 XI (in), 62 VDD18USBPLL (power), 64 VDD33A hidden, 65 GND (power)
part B pins: 1 USBDM2 (io), 2 USBDP2 (io), 3 USBDM3 (io), 4 USBDP3 (io), 6 USBDM4 (io), 7 USBDP4 (io), 8 NC (in) hidden, 9 NC (in) hidden, 11 VBUS_DET (in), 14 PRTCTL2 (io), 16 PRTCTL3 (io), 17 PRTCTL4 (io), 18 NC (in) hidden, 41 AUTOMDIX_EN (in), 50 EXRES (in), 52 RXP (in), 53 RXN (in), 55 TXP (out), 56 TXN (out), 58 USBDM0 (io), 59 USBDP0 (io), 63 USBRBIAS (in)

## LAN9513i
designator *  value LAN9513i
ki_keywords: USB HUB Ethernet 10/100; ki_description: Three USB 2.0 hub with an integrated 10/100 Ethernet controller (-40° to 85°C), QFN-48; ki_fp_filters: QFN*1EP?9x9mm?P0.5mm?EP7.3x7.3mm*; Footprint: Package_DFN_QFN:QFN-64-1EP_9x9mm_P0.5mm_EP7.3x7.3mm; Supplier: http://ww1.microchip.com/downloads/en/DeviceDoc/00002305A.pdf
footprint QFN-64-1EP_9x9mm_P0.5mm_EP7.3x7.3mm
part A pins: 5 VDD33A (power), 10 VDD33A hidden, 12 ~{{RESET}} (in), 13 TEST1 (in), 15 VDD18CORE (power), 19 VDD33IO (power), 20 ~{{FDX_LED}/GPIO0} (io), 21 ~{{LNKA_LED}/GPIO1} (io), 22 ~{{SPD_LED}/GPIO2} (io), 23 EECLK (out), 24 EECS (out), 25 EEDO (out), 26 EEDI (in), 27 VDD33IO hidden, 28 ~{{TRST}} (in), 29 TMS (in), 30 TDI (in), 31 TDO (out), 32 TCK (in), 33 VDD33IO hidden, 34 TEST2 (in), 35 GPIO3 (io), 36 GPIO4 (io), 37 GPIO5 (io), 38 VDD18CORE hidden, 39 VDD33IO hidden, 40 TEST3 (in), 42 GPIO6 (io), 43 GPIO7 (io), 44 CLK24_EN (in), 45 CLK24_OUT (out), 46 VDD33IO hidden, 47 TEST4 (in), 48 VDD18ETHPLL (power), 49 VDD33A hidden, 51 VDD33A hidden, 54 VDD33A hidden, 57 VDD33A hidden, 60 XO (in), 61 XI (in), 62 VDD18USBPLL (power), 64 VDD33A hidden, 65 GND (power)
part B pins: 1 USBDM2 (io), 2 USBDP2 (io), 3 USBDM3 (io), 4 USBDP3 (io), 6 USBDM4 (io), 7 USBDP4 (io), 8 NC (in) hidden, 9 NC (in) hidden, 11 VBUS_DET (in), 14 PRTCTL2 (io), 16 PRTCTL3 (io), 17 PRTCTL4 (io), 18 NC (in) hidden, 41 AUTOMDIX_EN (in), 50 EXRES (in), 52 RXP (in), 53 RXN (in), 55 TXP (out), 56 TXN (out), 58 USBDM0 (io), 59 USBDP0 (io), 63 USBRBIAS (in)

## LAN9514
designator *  value LAN9514
ki_keywords: USB HUB Ethernet 10/100; ki_description: Four USB 2.0 hub with an integrated 10/100 Ethernet controller (0°C to +70°C), QFN-48; ki_fp_filters: QFN*1EP?9x9mm?P0.5mm?EP7.3x7.3mm*; Footprint: Package_DFN_QFN:QFN-64-1EP_9x9mm_P0.5mm_EP7.3x7.3mm; Supplier: http://ww1.microchip.com/downloads/en/DeviceDoc/00002306A.pdf
footprint QFN-64-1EP_9x9mm_P0.5mm_EP7.3x7.3mm
part A pins: 5 VDD33A (power), 10 VDD33A hidden, 12 ~{{RESET}} (in), 13 TEST1 (in), 15 VDD18CORE (power), 19 VDD33IO (power), 20 ~{{FDX_LED}/GPIO0} (io), 21 ~{{LNKA_LED}/GPIO1} (io), 22 ~{{SPD_LED}/GPIO2} (io), 23 EECLK (out), 24 EECS (out), 25 EEDO (out), 26 EEDI (in), 27 VDD33IO hidden, 28 ~{{TRST}} (in), 29 TMS (in), 30 TDI (in), 31 TDO (out), 32 TCK (in), 33 VDD33IO hidden, 34 TEST2 (in), 35 GPIO3 (io), 36 GPIO4 (io), 37 GPIO5 (io), 38 VDD18CORE hidden, 39 VDD33IO hidden, 40 TEST3 (in), 42 GPIO6 (io), 43 GPIO7 (io), 44 CLK24_EN (in), 45 CLK24_OUT (out), 46 VDD33IO hidden, 47 TEST4 (in), 48 VDD18ETHPLL (power), 49 VDD33A hidden, 51 VDD33A hidden, 54 VDD33A hidden, 57 VDD33A hidden, 60 XO (in), 61 XI (in), 62 VDD18USBPLL (power), 64 VDD33A hidden, 65 GND (power)
part B pins: 1 USBDM2 (io), 2 USBDP2 (io), 3 USBDM3 (io), 4 USBDP3 (io), 6 USBDM4 (io), 7 USBDP4 (io), 8 USBDM5 (io), 9 USBDP5 (io), 11 VBUS_DET (in), 14 PRTCTL2 (io), 16 PRTCTL3 (io), 17 PRTCTL4 (io), 18 PRTCTL5 (io), 41 AUTOMDIX_EN (in), 50 EXRES (in), 52 RXP (in), 53 RXN (in), 55 TXP (out), 56 TXN (out), 58 USBDM0 (io), 59 USBDP0 (io), 63 USBRBIAS (in)

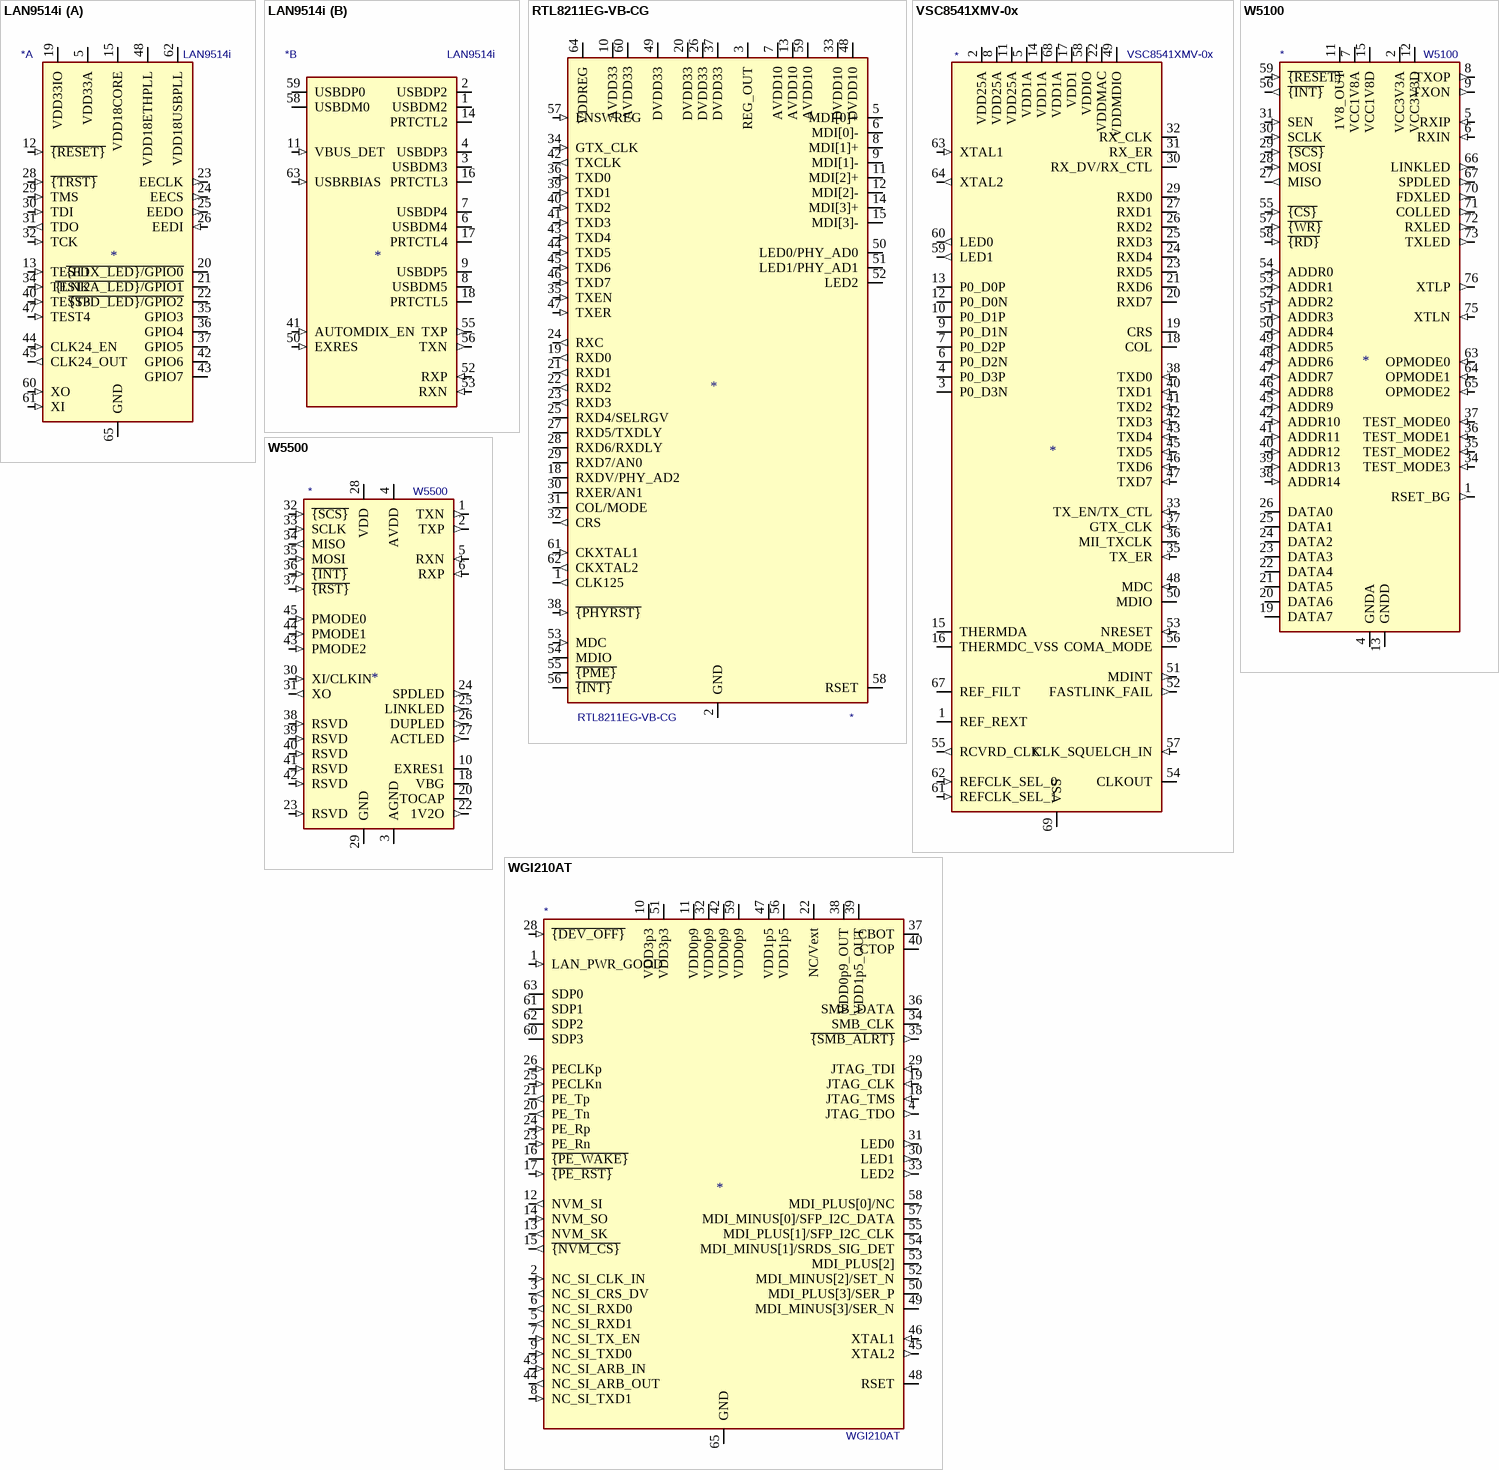
[diagram p2: symbols LAN9514i to WGI210AT]

## LAN9514i
designator *  value LAN9514i
ki_keywords: USB HUB Ethernet 10/100; ki_description: Four USB 2.0 hub with an integrated 10/100 Ethernet controller (-40° to 85°C), QFN-48; ki_fp_filters: QFN*1EP?9x9mm?P0.5mm?EP7.3x7.3mm*; Footprint: Package_DFN_QFN:QFN-64-1EP_9x9mm_P0.5mm_EP7.3x7.3mm; Supplier: http://ww1.microchip.com/downloads/en/DeviceDoc/00002306A.pdf
footprint QFN-64-1EP_9x9mm_P0.5mm_EP7.3x7.3mm
part A pins: 5 VDD33A (power), 10 VDD33A hidden, 12 ~{{RESET}} (in), 13 TEST1 (in), 15 VDD18CORE (power), 19 VDD33IO (power), 20 ~{{FDX_LED}/GPIO0} (io), 21 ~{{LNKA_LED}/GPIO1} (io), 22 ~{{SPD_LED}/GPIO2} (io), 23 EECLK (out), 24 EECS (out), 25 EEDO (out), 26 EEDI (in), 27 VDD33IO hidden, 28 ~{{TRST}} (in), 29 TMS (in), 30 TDI (in), 31 TDO (out), 32 TCK (in), 33 VDD33IO hidden, 34 TEST2 (in), 35 GPIO3 (io), 36 GPIO4 (io), 37 GPIO5 (io), 38 VDD18CORE hidden, 39 VDD33IO hidden, 40 TEST3 (in), 42 GPIO6 (io), 43 GPIO7 (io), 44 CLK24_EN (in), 45 CLK24_OUT (out), 46 VDD33IO hidden, 47 TEST4 (in), 48 VDD18ETHPLL (power), 49 VDD33A hidden, 51 VDD33A hidden, 54 VDD33A hidden, 57 VDD33A hidden, 60 XO (in), 61 XI (in), 62 VDD18USBPLL (power), 64 VDD33A hidden, 65 GND (power)
part B pins: 1 USBDM2 (io), 2 USBDP2 (io), 3 USBDM3 (io), 4 USBDP3 (io), 6 USBDM4 (io), 7 USBDP4 (io), 8 USBDM5 (io), 9 USBDP5 (io), 11 VBUS_DET (in), 14 PRTCTL2 (io), 16 PRTCTL3 (io), 17 PRTCTL4 (io), 18 PRTCTL5 (io), 41 AUTOMDIX_EN (in), 50 EXRES (in), 52 RXP (in), 53 RXN (in), 55 TXP (out), 56 TXN (out), 58 USBDM0 (io), 59 USBDP0 (io), 63 USBRBIAS (in)

## RTL8211EG-VB-CG
designator *  value RTL8211EG-VB-CG
ki_keywords: Ethernet Phy Gigabit; ki_description: 10/100/1000Mbps Ethernet Transceiver with RGMII/GMII/MII/RMII Interface, QFN-64; ki_fp_filters: QFN*1EP*9x9mm*P0.5mm*; Footprint: Package_DFN_QFN:QFN-64-1EP_9x9mm_P0.5mm_EP3.8x3.8mm; Supplier: https://datasheet.lcsc.com/szlcsc/Realtek-Semicon-RTL8211EG-VB-CG_C69264.pdf
footprint QFN-64-1EP_9x9mm_P0.5mm_EP3.8x3.8mm
pins: 1 CLK125 (out), 2 GND (power), 3 REG_OUT (power), 4 GND hidden, 5 MDI[0]+ (io), 6 MDI[0]- (io), 7 AVDD10 (power), 8 MDI[1]+ (io), 9 MDI[1]- (io), 10 AVDD33 (power), 11 MDI[2]+ (io), 12 MDI[2]- (io), 13 AVDD10 (power), 14 MDI[3]+ (io), 15 MDI[3]- (io), 16 NC (in) hidden, 17 NC (in) hidden, 18 RXDV/PHY_AD2 (io), 19 RXD0 (out), 20 DVDD33 (power), 21 RXD1 (out), 22 RXD2 (out), 23 RXD3 (out), 24 RXC (out), 25 RXD4/SELRGV (io), 26 DVDD33 (power), 27 RXD5/TXDLY (io), 28 RXD6/RXDLY (io), 29 RXD7/AN0 (io), 30 RXER/AN1 (io), 31 COL/MODE (io), 32 CRS (out), 33 DVDD10 (power), 34 GTX_CLK (in), 35 TXEN (in), 36 TXD0 (in), 37 DVDD33 (power), 38 ~{{PHYRST}} (in), 39 TXD1 (in), 40 TXD2 (in), 41 TXD3 (in), 42 TXCLK (out), 43 TXD4 (in), 44 TXD5 (in), 45 TXD6 (in), 46 TXD7 (in), 47 TXER (in), 48 DVDD10 (power), 49 DVDD33 (power), 50 LED0/PHY_AD0 (io), 51 LED1/PHY_AD1 (io), 52 LED2 (io), 53 MDC (in), 54 MDIO (io), 55 ~{{PME}} (oc), 56 ~{{INT}} (oc), 57 ENSWREG (in), 58 RSET, 59 AVDD10 (power), 60 AVDD33 (power), 61 CKXTAL1 (in), 62 CKXTAL2 (out), 63 GND hidden, 64 VDDREG (power), 65 GND hidden

## VSC8541XMV-0x
designator *  value VSC8541XMV-0x
ki_keywords: Gigabit Ethernet PHY GMII RGMII MII RMII; ki_description: Single Port Gigabit Ethernet, GMII/RGMII/MII/RMII Interfaces, QFN-68; ki_fp_filters: QFN?68*1EP*8x8mm*P0.4mm*; Footprint: Package_DFN_QFN:QFN-68-1EP_8x8mm_P0.4mm_EP5.2x5.2mm; Supplier: https://ethernet.microsemi.com/products/download.php?fid=7978&number=vsc8541
footprint QFN-68-1EP_8x8mm_P0.4mm_EP5.2x5.2mm
pins: 1 REF_REXT, 2 VDD25A (power), 3 P0_D3N, 4 P0_D3P, 5 VDD1A (power), 6 P0_D2N, 7 P0_D2P, 8 VDD25A (power), 9 P0_D1N, 10 P0_D1P, 11 VDD25A (power), 12 P0_D0N, 13 P0_D0P, 14 VDD1A (power), 15 THERMDA, 16 THERMDC_VSS, 17 VDD1 (power), 18 COL (io), 19 CRS (io), 20 RXD7 (io), 21 RXD6 (io), 22 VDDMAC (power), 23 RXD5 (io), 24 RXD4 (io), 25 RXD3 (io), 26 RXD2 (io), 27 RXD1 (io), 28 VDDMAC hidden, 29 RXD0 (io), 30 RX_DV/RX_CTL (io), 31 RX_ER (io), 32 RX_CLK (io), 33 TX_EN/TX_CTL (in), 34 VDD1 hidden, 35 TX_ER (in), 36 MII_TXCLK (io), 37 GTX_CLK (in), 38 TXD0 (in), 39 VDDMAC hidden, 40 TXD1 (in), 41 TXD2 (in), 42 TXD3 (in), 43 TXD4 (in), 44 VDDMAC hidden, 45 TXD5 (in), 46 TXD6 (in), 47 TXD7 (in), 48 MDC (in), 49 VDDMDIO (power), 50 MDIO (io), 51 MDINT (out), 52 FASTLINK_FAIL (out), 53 NRESET (in), 54 CLKOUT (io), 55 RCVRD_CLK (out), 56 COMA_MODE (io), 57 CLK_SQUELCH_IN (in), 58 VDDIO (power), 59 LED1 (out), 60 LED0 (out), 61 REFCLK_SEL_1 (in), 62 REFCLK_SEL_0 (in), 63 XTAL1 (in), 64 XTAL2 (out), 65 RESERVED_1 (in) hidden, 66 RESERVED_0 (in) hidden, 67 REF_FILT, 68 VDD1A (power), 69 VSS (power)

## W5100
designator *  value W5100
ki_keywords: Wiznet Ethernet controller; ki_description: 10/100Mb Ethernet controller with TCP/IP stack, LQFP-80; ki_fp_filters: LQFP*10x10mm*P0.4mm*; Footprint: Package_QFP:LQFP-80_10x10mm_P0.4mm; Supplier: http://www.wiznet.io/wp-content/uploads/wiznethome/Chip/W5100/Document/W5100_Datasheet_v1.2.7.pdf
footprint LQFP-80_10x10mm_P0.4mm
pins: 1 RSET_BG (out), 2 VCC3V3A (power), 3 NC (in) hidden, 4 GNDA (power), 5 RXIP (in), 6 RXIN (in), 7 VCC1V8A (power), 8 TXOP (out), 9 TXON (out), 10 GNDA hidden, 11 1V8_OUT (power), 12 VCC3V3D (power), 13 GNDD (power), 14 GNDD hidden, 15 VCC1V8D (power), 16 VCC1V8D hidden, 17 GNDD hidden, 18 VCC3V3D hidden, 19 DATA7 (io), 20 DATA6 (io), 21 DATA5 (io), 22 DATA4 (io), 23 DATA3 (io), 24 DATA2 (io), 25 DATA1 (io), 26 DATA0 (io), 27 MISO (out), 28 MOSI (in), 29 ~{{SCS}} (in), 30 SCLK (in), 31 SEN (in), 32 GNDD hidden, 33 VCC1V8D hidden, 34 TEST_MODE3 (in), 35 TEST_MODE2 (in), 36 TEST_MODE1 (in), 37 TEST_MODE0 (in), 38 ADDR14 (in), 39 ADDR13 (in), 40 ADDR12 (in), 41 ADDR11 (in), 42 ADDR10 (in), 43 GNDD hidden, 44 VCC3V3D hidden, 45 ADDR9 (in), 46 ADDR8 (in), 47 ADDR7 (in), 48 ADDR6 (in), 49 ADDR5 (in), 50 ADDR4 (in), 51 ADDR3 (in), 52 ADDR2 (in), 53 ADDR1 (in), 54 ADDR0 (in), 55 ~{{CS}} (in), 56 ~{{INT}} (out), 57 ~{{WR}} (in), 58 ~{{RD}} (in), 59 ~{{RESET}} (in), 60 NC (in) hidden, 61 NC (in) hidden, 62 NC (in) hidden, 63 OPMODE0 (in), 64 OPMODE1 (in), 65 OPMODE2 (in), 66 LINKLED (out), 67 SPDLED (out), 68 GNDD hidden, 69 VCC1V8D hidden, 70 FDXLED (out), 71 COLLED (out), 72 RXLED (out), 73 TXLED (out), 74 VCC1V8A hidden, 75 XTLN (in), 76 XTLP (out), 77 GNDA hidden, 78 NC (in) hidden, 79 NC (in) hidden, 80 NC (in) hidden

## W5500
designator *  value W5500
ki_keywords: WIZnet Ethernet controller; ki_description: 10/100Mb SPI Ethernet controller with TCP/IP stack, LQFP-48; ki_fp_filters: LQFP*7x7mm*P0.5mm*; Footprint: Package_QFP:LQFP-48_7x7mm_P0.5mm; Supplier: http://wizwiki.net/wiki/lib/exe/fetch.php/products:w5500:w5500_ds_v109e.pdf
footprint LQFP-48_7x7mm_P0.5mm
pins: 1 TXN (out), 2 TXP (out), 3 AGND (power), 4 AVDD (power), 5 RXN (in), 6 RXP (in), 7 DNC (in) hidden, 8 AVDD hidden, 9 AGND hidden, 10 EXRES1, 11 AVDD hidden, 12 NC (in) hidden, 13 NC (in) hidden, 14 AGND hidden, 15 AVDD hidden, 16 AGND hidden, 17 AVDD hidden, 18 VBG, 19 AGND hidden, 20 TOCAP, 21 AVDD hidden, 22 1V2O (out), 23 RSVD (in), 24 SPDLED (out), 25 LINKLED (out), 26 DUPLED (out), 27 ACTLED (out), 28 VDD (power), 29 GND (power), 30 XI/CLKIN (in), 31 XO (out), 32 ~{{SCS}} (in), 33 SCLK (in), 34 MISO (out), 35 MOSI (in), 36 ~{{INT}} (in), 37 ~{{RST}} (in), 38 RSVD (in), 39 RSVD (in), 40 RSVD (in), 41 RSVD (in), 42 RSVD (in), 43 PMODE2 (in), 44 PMODE1 (in), 45 PMODE0 (in), 46 NC (in) hidden, 47 NC (in) hidden, 48 AGND hidden

## WGI210AT
designator *  value WGI210AT
ki_keywords: Gigabit ethernet PHY PCIe; ki_description: 10/100/1000Mbps Ethernet transceiver with GMII/Serdes/PCIe interface, QFN-64; ki_fp_filters: QFN*1EP*9x9mm*P0.5mm*; Footprint: Package_DFN_QFN:QFN-64-1EP_9x9mm_P0.5mm_EP3.4x3.4mm; Supplier: http://www.intel.com/content/www/us/en/ethernet-controllers/i210-ethernet-controller-datasheet.html
footprint QFN-64-1EP_9x9mm_P0.5mm_EP3.4x3.4mm
pins: 1 LAN_PWR_GOOD (in), 2 NC_SI_CLK_IN (in), 3 NC_SI_CRS_DV (out), 4 JTAG_TDO (out), 5 NC_SI_RXD1 (out), 6 NC_SI_RXD0 (out), 7 NC_SI_TX_EN (in), 8 NC_SI_TXD1 (in), 9 NC_SI_TXD0 (in), 10 VDD3p3 (power), 11 VDD0p9 (power), 12 NVM_SI (out), 13 NVM_SK (out), 14 NVM_SO (in), 15 ~{{NVM_CS}} (out), 16 ~{{PE_WAKE}} (io), 17 ~{{PE_RST}} (in), 18 JTAG_TMS (in), 19 JTAG_CLK (in), 20 PE_Tn (out), 21 PE_Tp (out), 22 NC/Vext (power), 23 PE_Rn (in), 24 PE_Rp (in), 25 PECLKn (in), 26 PECLKp (in), 27 VDD3p3 (power) hidden, 28 ~{{DEV_OFF}} (in), 29 JTAG_TDI (in), 30 LED1 (out), 31 LED0 (out), 32 VDD0p9 (power), 33 LED2 (out), 34 SMB_CLK (io), 35 ~{{SMB_ALRT}} (out), 36 SMB_DATA (io), 37 CBOT, 38 VDD0p9_OUT (power), 39 VDD1p5_OUT (power), 40 CTOP, 41 VDD3p3 (power) hidden, 42 VDD0p9 (power), 43 NC_SI_ARB_IN (in), 44 NC_SI_ARB_OUT (out), 45 XTAL2 (out), 46 XTAL1 (in), 47 VDD1p5 (power), 48 RSET, 49 MDI_MINUS[3]/SER_N (io), 50 MDI_PLUS[3]/SER_P (io), 51 VDD3p3 (power), 52 MDI_MINUS[2]/SET_N (io), 53 MDI_PLUS[2] (io), 54 MDI_MINUS[1]/SRDS_SIG_DET (io), 55 MDI_PLUS[1]/SFP_I2C_CLK (io), 56 VDD1p5 (power), 57 MDI_MINUS[0]/SFP_I2C_DATA (io), 58 MDI_PLUS[0]/NC (io), 59 VDD0p9 (power), 60 SDP3 (io), 61 SDP1 (io), 62 SDP2 (io), 63 SDP0 (io), 64 VDD3p3 (power) hidden, 65 GND (power)